# Altium schematic symbol library Amplifier_Audio.SchLib: 96 symbols (part 1 of 2)
Pins are listed as number, name and electrical type; pins without a type are passive.

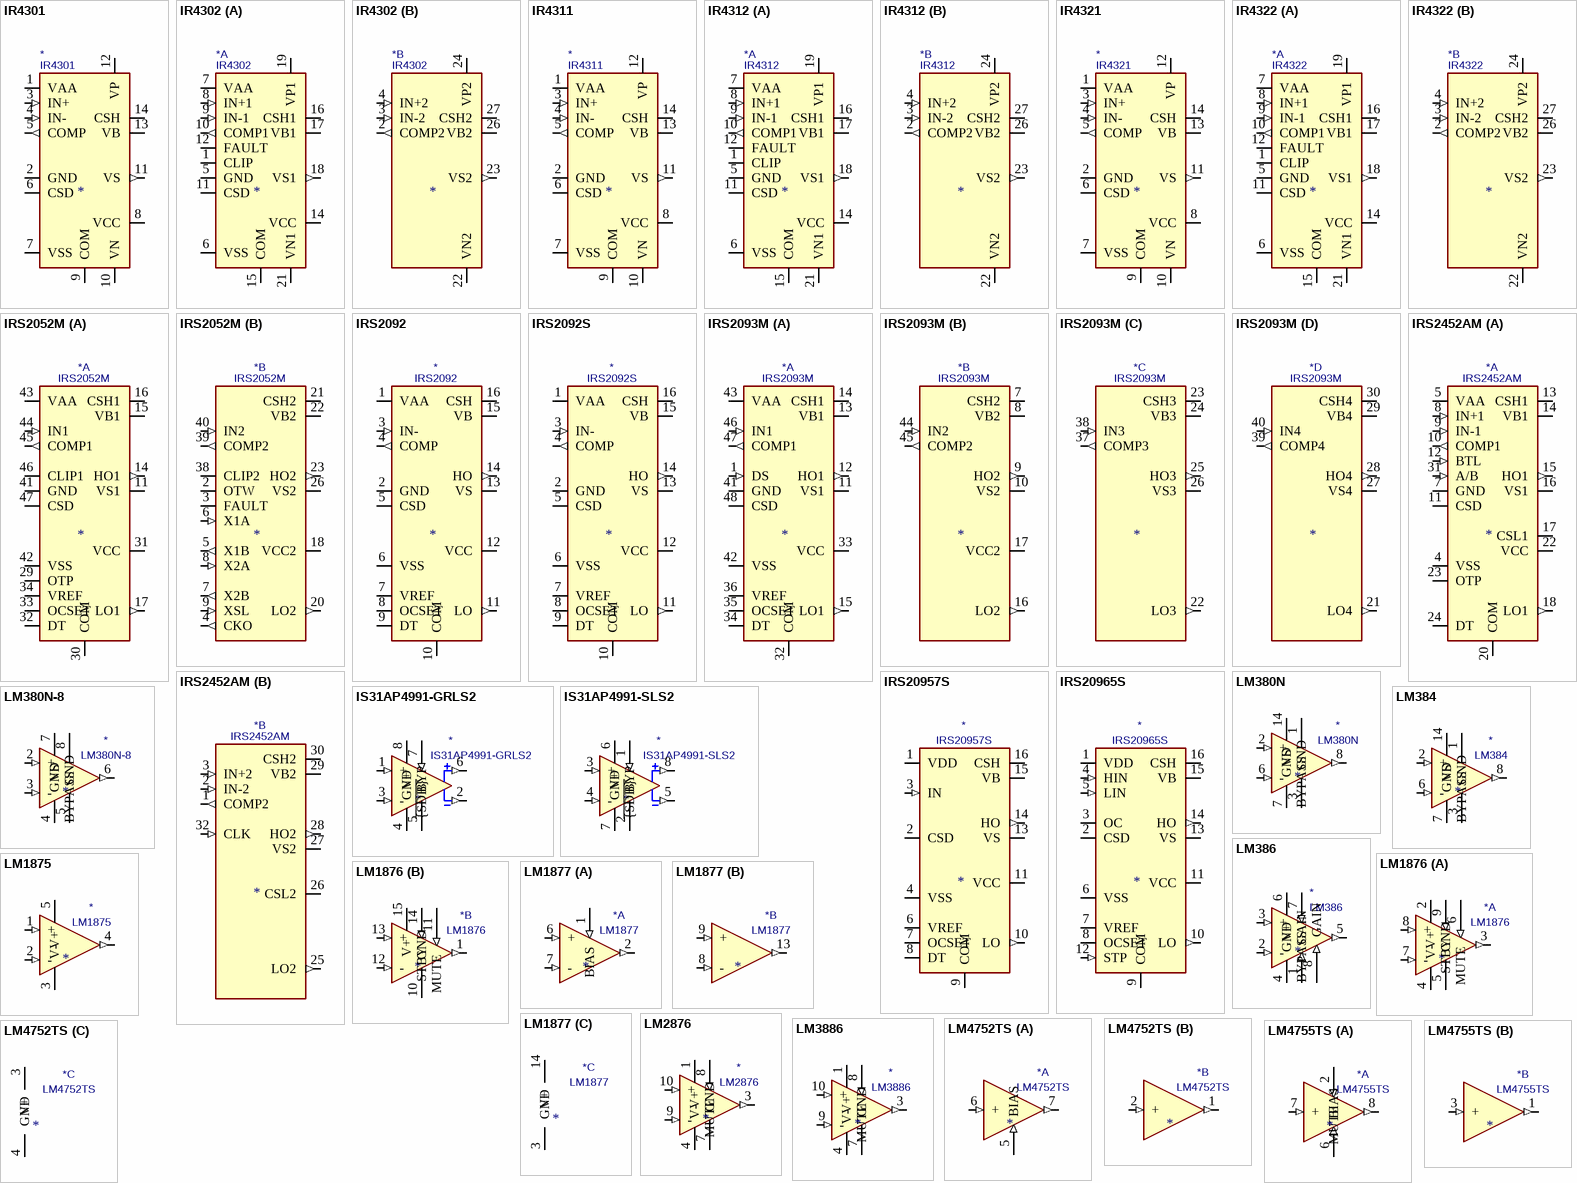
[diagram p0: symbols IR4301 to LM4755TS]

## IR4301
designator *  value IR4301
ki_keywords: integrated class d amplifier; ki_description: PowIRaudio Integrated Analog Input Class D Audio Amplifier, 160W/4ohm, 80V, PQFN-22; ki_fp_filters: Infineon*PQFN*4EP*6x5mm*P0.65mm*; Footprint: Package_DFN_QFN:Infineon_PQFN-22-15-4EP_6x5mm_P0.65mm; Supplier: https://www.infineon.com/dgdl/ir4301.pdf?fileId=5546d462533600a4015355d5fc691819
footprint Infineon_PQFN-22-15-4EP_6x5mm_P0.65mm
pins: 1 VAA (power), 2 GND (power), 3 IN+ (in), 4 IN- (in), 5 COMP (out), 6 CSD, 7 VSS (power), 8 VCC (power), 9 COM (power), 10 VN (power), 11 VS (out), 12 VP (power), 13 VB (power), 14 CSH, 15 COM hidden

## IR4302
designator *  value IR4302
ki_keywords: integrated class d amplifier 2ch; ki_description: PowIRaudio 2 Channel Integrated Analog Input Class D Audio Amplifier, 130W/4ohm, 80V, PQFN-44; ki_fp_filters: Infineon*PQFN*5EP*7x7mm*P0.5mm*; Footprint: Package_DFN_QFN:Infineon_PQFN-44-31-5EP_7x7mm_P0.5mm; Supplier: https://www.infineon.com/dgdl/ir4302.pdf?fileId=5546d462533600a4015355d602a9181d
footprint Infineon_PQFN-44-31-5EP_7x7mm_P0.5mm
part A pins: 1 CLIP (oc), 5 GND (power), 6 VSS (power), 7 VAA (power), 8 IN+1 (in), 9 IN-1 (in), 10 COMP1 (out), 11 CSD, 12 FAULT (oc), 13 NC (in) hidden, 14 VCC (power), 15 COM (power), 16 CSH1, 17 VB1 (power), 18 VS1 (out), 19 VP1 (power), 20 VS1 hidden, 21 VN1 (power), 28 COM hidden, 29 NC (in) hidden, 30 NC (in) hidden, 31 COM hidden
part B pins: 2 COMP2 (out), 3 IN-2 (in), 4 IN+2 (in), 22 VN2 (power), 23 VS2 (out), 24 VP2 (power), 25 VS2 hidden, 26 VB2 (power), 27 CSH2

## IR4311
designator *  value IR4311
ki_keywords: integrated class d amplifier; ki_description: PowIRaudio Integrated Analog Input Class D Audio Amplifier, 90W/4ohm, 60V, PQFN-22; ki_fp_filters: Infineon*PQFN*4EP*6x5mm*P0.65mm*; Footprint: Package_DFN_QFN:Infineon_PQFN-22-15-4EP_6x5mm_P0.65mm; Supplier: https://www.infineon.com/dgdl/ir4301.pdf?fileId=5546d462533600a4015355d5fc691819
footprint Infineon_PQFN-22-15-4EP_6x5mm_P0.65mm
pins: 1 VAA (power), 2 GND (power), 3 IN+ (in), 4 IN- (in), 5 COMP (out), 6 CSD, 7 VSS (power), 8 VCC (power), 9 COM (power), 10 VN (power), 11 VS (out), 12 VP (power), 13 VB (power), 14 CSH, 15 COM hidden

## IR4312
designator *  value IR4312
ki_keywords: integrated class d amplifier 2ch; ki_description: PowIRaudio 2 Channel Integrated Analog Input Class D Audio Amplifier, 100W/4ohm, 60V, PQFN-44; ki_fp_filters: Infineon*PQFN*5EP*7x7mm*P0.5mm*; Footprint: Package_DFN_QFN:Infineon_PQFN-44-31-5EP_7x7mm_P0.5mm; Supplier: https://www.infineon.com/dgdl/ir4302.pdf?fileId=5546d462533600a4015355d602a9181d
footprint Infineon_PQFN-44-31-5EP_7x7mm_P0.5mm
part A pins: 1 CLIP (oc), 5 GND (power), 6 VSS (power), 7 VAA (power), 8 IN+1 (in), 9 IN-1 (in), 10 COMP1 (out), 11 CSD, 12 FAULT (oc), 13 NC (in) hidden, 14 VCC (power), 15 COM (power), 16 CSH1, 17 VB1 (power), 18 VS1 (out), 19 VP1 (power), 20 VS1 hidden, 21 VN1 (power), 28 COM hidden, 29 NC (in) hidden, 30 NC (in) hidden, 31 COM hidden
part B pins: 2 COMP2 (out), 3 IN-2 (in), 4 IN+2 (in), 22 VN2 (power), 23 VS2 (out), 24 VP2 (power), 25 VS2 hidden, 26 VB2 (power), 27 CSH2

## IR4321
designator *  value IR4321
ki_keywords: integrated class d amplifier; ki_description: PowIRaudio Integrated Analog Input Class D Audio Amplifier, 35W/4ohm, 40V, PQFN-22; ki_fp_filters: Infineon*PQFN*4EP*6x5mm*P0.65mm*; Footprint: Package_DFN_QFN:Infineon_PQFN-22-15-4EP_6x5mm_P0.65mm; Supplier: https://www.infineon.com/dgdl/ir4301.pdf?fileId=5546d462533600a4015355d5fc691819
footprint Infineon_PQFN-22-15-4EP_6x5mm_P0.65mm
pins: 1 VAA (power), 2 GND (power), 3 IN+ (in), 4 IN- (in), 5 COMP (out), 6 CSD, 7 VSS (power), 8 VCC (power), 9 COM (power), 10 VN (power), 11 VS (out), 12 VP (power), 13 VB (power), 14 CSH, 15 COM hidden

## IR4322
designator *  value IR4322
ki_keywords: integrated class d amplifier 2ch; ki_description: PowIRaudio 2 Channel Integrated Analog Input Class D Audio Amplifier, 35W/4ohm, 40V, PQFN-44; ki_fp_filters: Infineon*PQFN*5EP*7x7mm*P0.5mm*; Footprint: Package_DFN_QFN:Infineon_PQFN-44-31-5EP_7x7mm_P0.5mm; Supplier: https://www.infineon.com/dgdl/ir4302.pdf?fileId=5546d462533600a4015355d602a9181d
footprint Infineon_PQFN-44-31-5EP_7x7mm_P0.5mm
part A pins: 1 CLIP (oc), 5 GND (power), 6 VSS (power), 7 VAA (power), 8 IN+1 (in), 9 IN-1 (in), 10 COMP1 (out), 11 CSD, 12 FAULT (oc), 13 NC (in) hidden, 14 VCC (power), 15 COM (power), 16 CSH1, 17 VB1 (power), 18 VS1 (out), 19 VP1 (power), 20 VS1 hidden, 21 VN1 (power), 28 COM hidden, 29 NC (in) hidden, 30 NC (in) hidden, 31 COM hidden
part B pins: 2 COMP2 (out), 3 IN-2 (in), 4 IN+2 (in), 22 VN2 (power), 23 VS2 (out), 24 VP2 (power), 25 VS2 hidden, 26 VB2 (power), 27 CSH2

## IRS2052M
designator *  value IRS2052M
ki_keywords: Gate Driver Class D 2ch; ki_description: 2 CH Digital Audio Amplifier, PWM Modulator, +/-100V, 0.5/0.6A, MLPQ-48; ki_fp_filters: Infineon*MLPQ*1EP*7x7mm*P0.5mm*; Footprint: Package_DFN_QFN:Infineon_MLPQ-48-1EP_7x7mm_P0.5mm_EP5.55x5.55mm; Supplier: https://www.infineon.com/dgdl/irs2052mpbf.pdf?fileId=5546d462533600a401535675d3b32788
footprint Infineon_MLPQ-48-1EP_7x7mm_P0.5mm_EP5.55x5.55mm
part A pins: 1 NC (in) hidden, 10 NC (in) hidden, 11 VS1, 12 NC (in) hidden, 13 NC (in) hidden, 14 HO1 (out), 15 VB1 (power), 16 CSH1, 17 LO1 (out), 19 COM hidden, 24 NC (in) hidden, 25 NC (in) hidden, 27 NC (in) hidden, 28 NC (in) hidden, 29 OTP, 30 COM (power), 31 VCC (power), 32 DT, 33 OCSET, 34 VREF (power), 35 NC (in) hidden, 36 NC (in) hidden, 37 NC (in) hidden, 41 GND (power), 42 VSS (power), 43 VAA (power), 44 IN1 (in), 45 COMP1 (out), 46 CLIP1 (oc), 47 CSD, 48 NC (in) hidden, 49 COM hidden
part B pins: 2 OTW (oc), 3 FAULT (oc), 4 CKO (out), 5 X1B (out), 6 X1A (in), 7 X2B (out), 8 X2A (in), 9 XSL (in), 18 VCC2 (power), 20 LO2 (out), 21 CSH2, 22 VB2 (power), 23 HO2 (out), 26 VS2, 38 CLIP2 (oc), 39 COMP2 (out), 40 IN2 (in)

## IRS2092
designator *  value IRS2092
ki_keywords: Gate Driver Class D; ki_description: Protected Digital Audio Amplifier, PWM Modulator, +/-100V, 1.0/1.2A, PDIP-16; ki_fp_filters: DIP*W7.62mm*; Footprint: Package_DIP:DIP-16_W7.62mm; Supplier: http://www.infineon.com/dgdl/irs2092.pdf?fileId=5546d462533600a401535675f1be2790
footprint DIP-16_W7.62mm
pins: 1 VAA (power), 2 GND (power), 3 IN- (in), 4 COMP (out), 5 CSD, 6 VSS (power), 7 VREF (power), 8 OCSET, 9 DT, 10 COM (power), 11 LO (out), 12 VCC (power), 13 VS, 14 HO (out), 15 VB (power), 16 CSH

## IRS2092S
designator *  value IRS2092S
ki_keywords: Gate Driver Class D; ki_description: Protected Digital Audio Amplifier, PWM Modulator, +/-100V, 1.0/1.2A, SOIC-16; ki_fp_filters: SOIC*3.9x9.9mm*P1.27mm*; Footprint: Package_SO:SOIC-16_3.9x9.9mm_P1.27mm; Supplier: http://www.infineon.com/dgdl/irs2092.pdf?fileId=5546d462533600a401535675f1be2790
footprint SOIC-16_3.9x9.9mm_P1.27mm
pins: 1 VAA (power), 2 GND (power), 3 IN- (in), 4 COMP (out), 5 CSD, 6 VSS (power), 7 VREF (power), 8 OCSET, 9 DT, 10 COM (power), 11 LO (out), 12 VCC (power), 13 VS, 14 HO (out), 15 VB (power), 16 CSH

## IRS2093M
designator *  value IRS2093M
ki_keywords: Gate Driver Class D 4ch; ki_description: 4 CH Digital Audio Amplifier, PWM Modulator, +/-100V, 0.5/0.6A, MLPQ-48; ki_fp_filters: Infineon*MLPQ*1EP*7x7mm*P0.5mm*; Footprint: Package_DFN_QFN:Infineon_MLPQ-48-1EP_7x7mm_P0.5mm_EP5.55x5.55mm; Supplier: https://www.infineon.com/dgdl/irs2093mpbf.pdf?fileId=5546d462533600a401535675fb892793
footprint Infineon_MLPQ-48-1EP_7x7mm_P0.5mm_EP5.55x5.55mm
part A pins: 1 DS (in), 2 NC (in) hidden, 3 NC (in) hidden, 4 NC (in) hidden, 5 NC (in) hidden, 6 NC (in) hidden, 11 VS1, 12 HO1 (out), 13 VB1 (power), 14 CSH1, 15 LO1 (out), 18 NC (in) hidden, 19 NC (in) hidden, 20 COM hidden, 31 NC (in) hidden, 32 COM (power), 33 VCC (power), 34 DT, 35 OCSET, 36 VREF (power), 41 GND (power), 42 VSS (power), 43 VAA (power), 46 IN1 (in), 47 COMP1 (out), 48 CSD, 49 COM hidden
part B pins: 7 CSH2, 8 VB2 (power), 9 HO2 (out), 10 VS2, 16 LO2 (out), 17 VCC2 (power), 44 IN2 (in), 45 COMP2 (out)
part C pins: 22 LO3 (out), 23 CSH3, 24 VB3 (power), 25 HO3 (out), 26 VS3, 37 COMP3 (out), 38 IN3 (in)
part D pins: 21 LO4 (out), 27 VS4, 28 HO4 (out), 29 VB4 (power), 30 CSH4, 39 COMP4 (out), 40 IN4 (in)

## IRS2452AM
designator *  value IRS2452AM
ki_keywords: Gate Driver Class D 2ch; ki_description: Class D Audio IC, PWM Modulator, +/-200V, 0.5/0.6A, MLPQ-32; ki_fp_filters: Infineon*MLPQ*1EP*7x7mm*P0.5mm*; Footprint: Package_DFN_QFN:Infineon_MLPQ-40-32-1EP_7x7mm_P0.5mm; Supplier: https://www.infineon.com/dgdl/Infineon-IRS2452AM-DS-v01_00-EN.pdf?fileId=5546d462584d1d4a01584ee4f1f00713
footprint Infineon_MLPQ-40-32-1EP_7x7mm_P0.5mm
part A pins: 4 VSS (power), 5 VAA (power), 6 NC (in) hidden, 7 GND (power), 8 IN+1 (in), 9 IN-1 (in), 10 COMP1 (out), 11 CSD, 12 BTL (in), 13 CSH1, 14 VB1 (power), 15 HO1 (out), 16 VS1, 17 CSL1, 18 LO1 (out), 19 NC (in) hidden, 20 COM (power), 21 NC (in) hidden, 22 VCC (power), 23 OTP, 24 DT, 31 A/B (in), 33 COM hidden
part B pins: 1 COMP2 (out), 2 IN-2 (in), 3 IN+2 (in), 25 LO2 (out), 26 CSL2, 27 VS2, 28 HO2 (out), 29 VB2 (power), 30 CSH2, 32 CLK (in)

## IRS20957S
designator *  value IRS20957S
ki_keywords: Gate Driver Class D; ki_description: Protected Digital Audio Driver, +/-100V, 1.0/1.2A, SOIC-16; ki_fp_filters: SOIC*3.9x9.9mm*P1.27mm*; Footprint: Package_SO:SOIC-16_3.9x9.9mm_P1.27mm; Supplier: http://www.infineon.com/dgdl/irs20957spbf.pdf?fileId=5546d462533600a401535676143e2799
footprint SOIC-16_3.9x9.9mm_P1.27mm
pins: 1 VDD (power), 2 CSD, 3 IN (in), 4 VSS (power), 5 NC (in) hidden, 6 VREF (power), 7 OCSET, 8 DT, 9 COM (power), 10 LO (out), 11 VCC (power), 12 NC (in) hidden, 13 VS, 14 HO (out), 15 VB (power), 16 CSH

## IRS20965S
designator *  value IRS20965S
ki_keywords: Gate Driver Class D; ki_description: Class D Audio Driver, +/-100V, 2.0/2.0A, SOIC-16; ki_fp_filters: SOIC*3.9x9.9mm*P1.27mm*; Footprint: Package_SO:SOIC-16_3.9x9.9mm_P1.27mm; Supplier: https://www.infineon.com/dgdl/irs20965spbf.pdf?fileId=5546d462533600a4015356761d8b279b
footprint SOIC-16_3.9x9.9mm_P1.27mm
pins: 1 VDD (power), 2 CSD, 3 OC (oc), 4 HIN (in), 5 LIN (in), 6 VSS (power), 7 VREF (power), 8 OCSET, 9 COM (power), 10 LO (out), 11 VCC (power), 12 STP (in), 13 VS, 14 HO (out), 15 VB (power), 16 CSH

## IS31AP4991-GRLS2
designator *  value IS31AP4991-GRLS2
ki_keywords: ultra low consumption distortion; ki_description: 1.2W, 2.7-5.5V, Audio Power Amplifier, Active-Low Standby, SOP-8; ki_fp_filters: SOP*3.9x4.9mm*P1.27mm*; Footprint: Package_SO:SOP-8_3.9x4.9mm_P1.27mm; Supplier: http://www.issi.com/WW/pdf/31AP4991.pdf
footprint SOP-8_3.9x4.9mm_P1.27mm
pins: 1 + (in), 2 (out), 3 - (in), 4 GND (power), 5 BYP, 6 (out), 7 ~{{SDB}} (in), 8 V+ (power)

## IS31AP4991-SLS2
designator *  value IS31AP4991-SLS2
ki_keywords: ultra low consumption distortion; ki_description: 1.2W, 2.7-5.5V, Audio Power Amplifier, Active-Low Standby, MSOP-8; ki_fp_filters: MSOP*3x3mm*P0.65mm*; Footprint: Package_SO:MSOP-8_3x3mm_P0.65mm; Supplier: http://www.issi.com/WW/pdf/31AP4991.pdf
footprint MSOP-8_3x3mm_P0.65mm
pins: 1 ~{{SDB}} (in), 2 BYP, 3 + (in), 4 - (in), 5 (out), 6 V+ (power), 7 GND (power), 8 (out)

## LM380N
designator *  value LM380N
ki_keywords: audio amplifier; ki_description: 2.5W Audio Power Amplifier, PDIP-14; ki_fp_filters: DIP*W7.62mm*; Footprint: Package_DIP:DIP-14_W7.62mm; Supplier: http://www.ti.com/lit/ds/symlink/lm380.pdf
footprint DIP-14_W7.62mm
pins: 1 BYPASS, 2 + (in), 3 GND (power), 4 GND hidden, 5 GND hidden, 6 - (in), 7 GND (power), 8 (out), 9 NC (in) hidden, 10 GND hidden, 11 GND hidden, 12 GND hidden, 13 NC (in) hidden, 14 VS (power)

## LM380N-8
designator *  value LM380N-8
ki_keywords: audio amplifier; ki_description: 2.5W Audio Power Amplifier, PDIP-8; ki_fp_filters: DIP*W7.62mm*; Footprint: Package_DIP:DIP-8_W7.62mm; Supplier: http://www.ti.com/lit/ds/symlink/lm380.pdf
footprint DIP-8_W7.62mm
pins: 1 NC (in) hidden, 2 + (in), 3 - (in), 4 GND (power), 5 GND (power), 6 (out), 7 VS (power), 8 BYPASS

## LM384
designator *  value LM384
ki_keywords: audio amplifier; ki_description: 5W Audio Power Amplifier, PDIP-14; ki_fp_filters: DIP*W7.62mm*; Footprint: Package_DIP:DIP-14_W7.62mm; Supplier: http://www.ti.com/lit/ds/symlink/lm384.pdf
footprint DIP-14_W7.62mm
pins: 1 BYPASS, 2 + (in), 3 GND (power), 4 GND hidden, 5 GND hidden, 6 - (in), 7 GND (power), 8 (out), 9 NC (in) hidden, 10 GND hidden, 11 GND hidden, 12 GND hidden, 13 NC (in) hidden, 14 VS (power)

## LM386
designator *  value LM386
ki_keywords: single Power opamp; ki_description: Low Voltage Audio Power Amplifier, DIP-8/SOIC-8/SSOP-8; ki_fp_filters: SOIC*3.9x4.9mm*P1.27mm* DIP*W7.62mm* MSSOP*P0.65mm* TSSOP*3x3mm*P0.5mm*; Supplier: http://www.ti.com/lit/ds/symlink/lm386.pdf
pins: 1 GAIN (in), 2 - (in), 3 + (in), 4 GND (power), 5 (out), 6 V+ (power), 7 BYPASS (in), 8 GAIN (in)

## LM1875
designator *  value LM1875
ki_keywords: audio amplifier; ki_description: 20W Audio Power Amplifier, TO-220-5; ki_fp_filters: TO?220*StaggerOdd*; Footprint: Package_TO_SOT_THT:TO-220-5_P3.4x3.7mm_StaggerOdd_Lead3.8mm_Vertical; Supplier: http://www.ti.com/lit/ds/symlink/lm1875.pdf
footprint TO-220-5_P3.4x3.7mm_StaggerOdd_Lead3.8mm_Vertical
pins: 1 + (in), 2 - (in), 3 V- (power), 4 (out), 5 V+ (power)

## LM1876
designator *  value LM1876
ki_keywords: audio amplifier 2ch; ki_description: Overture Audio Power Amplifier Series Dual 20W Audio Power Amplifier with Mute and Standby Modes, TO-220-15; ki_fp_filters: TO?220*StaggerOdd*; Footprint: Package_TO_SOT_THT:TO-220-15_P2.54x2.54mm_StaggerOdd_Lead4.58mm_Vertical; Supplier: http://www.ti.com/lit/ds/symlink/lm1876.pdf
footprint TO-220-15_P2.54x2.54mm_StaggerOdd_Lead4.58mm_Vertical
part A pins: 2 V+ (power), 3 (out), 4 V- (power), 5 GND (power), 6 MUTE (in), 7 - (in), 8 + (in), 9 STBY (in)
part B pins: 1 (out), 10 GND (power), 11 MUTE (in), 12 - (in), 13 + (in), 14 STBY (in), 15 V+ (power)

## LM1877
designator *  value LM1877
ki_keywords: audio amplifier 2ch; ki_description: Dual Audio Power Amplifier, PDIP-14/SOIC-14; ki_fp_filters: SOIC*7.5x9mm*P1.27mm* DIP*W7.62mm*; Supplier: http://www.ti.com/lit/ds/symlink/lm1877.pdf
part A pins: 1 BIAS (in), 2 (out), 6 + (in), 7 - (in)
part B pins: 8 - (in), 9 + (in), 13 (out)
part C pins: 3 GND (power), 4 GND hidden, 5 GND hidden, 10 GND hidden, 11 GND hidden, 12 GND hidden, 14 V+ (power)

## LM2876
designator *  value LM2876
ki_keywords: audio amplifier 2ch; ki_description: Overture Audio Power Amplifier Series High-Performance 40W Audio Power Amplifier w/Mute, TO-220-11; ki_fp_filters: TO?220*StaggerOdd*; Footprint: Package_TO_SOT_THT:TO-220-11_P3.4x5.08mm_StaggerOdd_Lead4.85mm_Vertical; Supplier: http://www.ti.com/lit/ds/symlink/lm2876.pdf
footprint TO-220-11_P3.4x5.08mm_StaggerOdd_Lead4.85mm_Vertical
pins: 1 V+ (power), 2 NC (in) hidden, 3 (out), 4 V- (power), 5 NC (in) hidden, 6 NC (in) hidden, 7 GND (power), 8 MUTE (in), 9 - (in), 10 + (in), 11 NC (in) hidden

## LM3886
designator *  value LM3886
ki_keywords: audio amplifier; ki_description: Overture Audio Power Amplifier Series High-Performance 68W Audio Power Amplifier w/Mute, TO-220-11; ki_fp_filters: TO?220*StaggerOdd*; Footprint: Package_TO_SOT_THT:TO-220-11_P3.4x5.08mm_StaggerOdd_Lead4.85mm_Vertical; Supplier: http://www.ti.com/lit/ds/symlink/lm3886.pdf
footprint TO-220-11_P3.4x5.08mm_StaggerOdd_Lead4.85mm_Vertical
pins: 1 V+ (power), 2 NC (in) hidden, 3 (out), 4 V- (power), 5 V+ hidden, 6 NC (in) hidden, 7 GND (power), 8 MUTE (in), 9 - (in), 10 + (in), 11 NC (in) hidden

## LM4752TS
designator *  value LM4752TS
ki_keywords: audio amplifier 2ch; ki_description: Stereo 11W Audio Power Amplifier, TO-263-7; ki_fp_filters: TO?263*TabPin4*; Footprint: Package_TO_SOT_SMD:TO-263-7_TabPin4; Supplier: http://www.ti.com/lit/ds/symlink/lm4752.pdf
footprint TO-263-7_TabPin4
part A pins: 5 BIAS (in), 6 + (in), 7 (out)
part B pins: 1 (out), 2 + (in)
part C pins: 3 V+ (power), 4 GND (power)

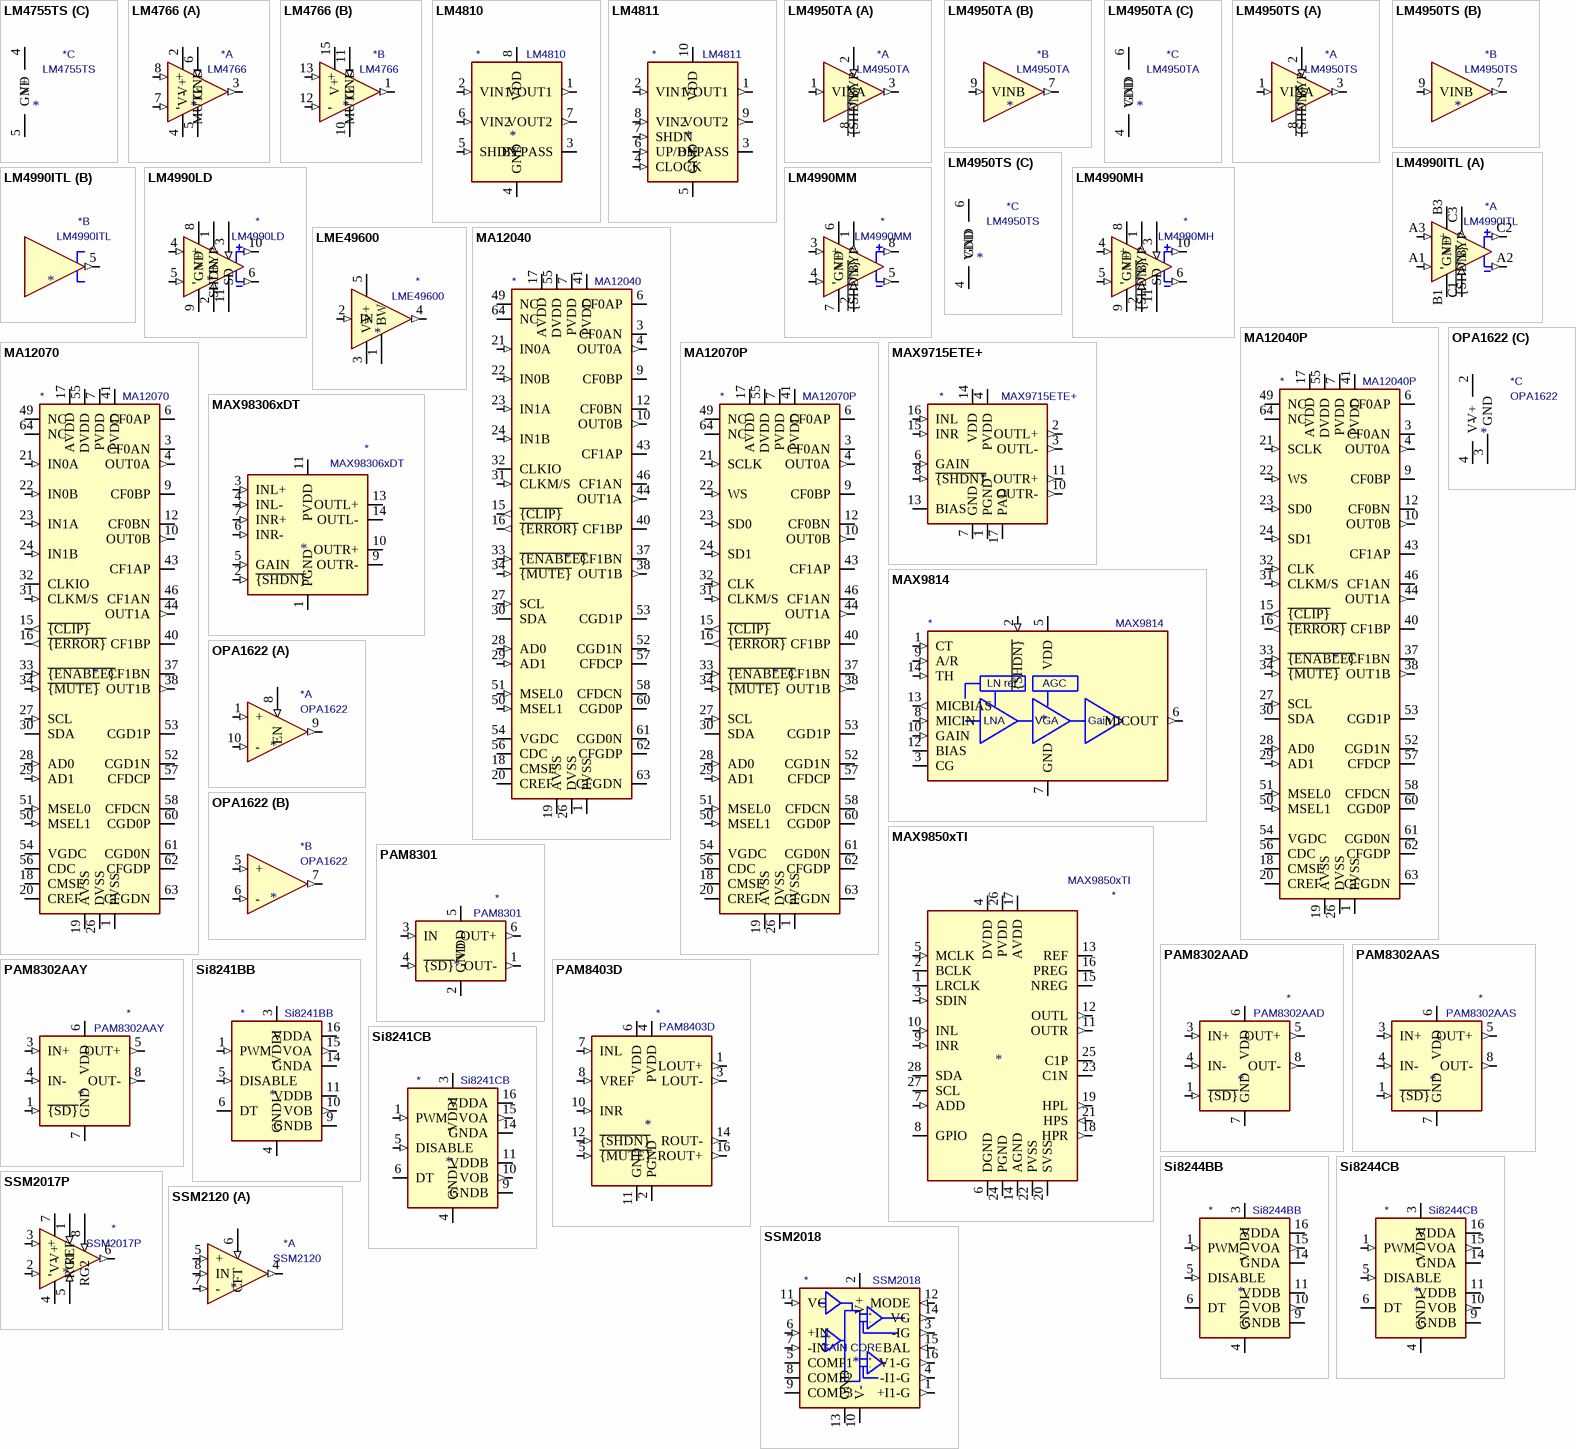
[diagram p1: symbols LM4755TS to SSM2120]

## LM4755TS
designator *  value LM4755TS
ki_keywords: audio amplifier 2ch; ki_description: Stereo 11W Audio Power Amplifier with Mute, TO-263-9; ki_fp_filters: TO?263*TabPin5*; Footprint: Package_TO_SOT_SMD:TO-263-9_TabPin5; Supplier: http://www.ti.com/lit/ds/symlink/lm4755.pdf
footprint TO-263-9_TabPin5
part A pins: 2 MUTE (in), 6 BIAS (in), 7 + (in), 8 (out), 9 NC (in) hidden
part B pins: 1 (out), 3 + (in)
part C pins: 4 V+ (power), 5 GND (power)

## LM4766
designator *  value LM4766
ki_keywords: audio amplifier 2ch; ki_description: Overture Audio Power Amplifier Series Dual 40W Audio Power Amplifier with Mute, TO-220-15; ki_fp_filters: TO?220*StaggerOdd*; Footprint: Package_TO_SOT_THT:TO-220-15_P2.54x2.54mm_StaggerOdd_Lead4.58mm_Vertical; Supplier: http://www.ti.com/lit/ds/symlink/lm4766.pdf
footprint TO-220-15_P2.54x2.54mm_StaggerOdd_Lead4.58mm_Vertical
part A pins: 2 V+ (power), 3 (out), 4 V- (power), 5 GND (power), 6 MUTE (in), 7 - (in), 8 + (in), 9 NC (in) hidden
part B pins: 1 (out), 10 GND (power), 11 MUTE (in), 12 - (in), 13 + (in), 14 NC (in) hidden, 15 V+ (power)

## LM4810
designator *  value LM4810
ki_keywords: audio amplifier headphone; ki_description: Boomer Dual 105mW Headphone Amplifier with Active-High Shutdown Mode, VSSOP-8; ki_fp_filters: TSSOP*3x3mm*P0.65mm*; Footprint: Package_SO:TSSOP-8_3x3mm_P0.65mm; Supplier: http://www.ti.com/lit/ds/symlink/lm4810.pdf
footprint TSSOP-8_3x3mm_P0.65mm
pins: 1 VOUT1 (out), 2 VIN1 (in), 3 BYPASS, 4 GND (power), 5 SHDN (in), 6 VIN2 (in), 7 VOUT2 (out), 8 VDD (power)

## LM4811
designator *  value LM4811
ki_keywords: audio amplifier headphone 2ch; ki_description: Boomer Dual 105mW Headphone Amplifier with Digital Volume Control and Shutdown Mode, VSSOP-10; ki_fp_filters: TSSOP*3x3mm*P0.5mm*; Footprint: Package_SO:TSSOP-10_3x3mm_P0.5mm; Supplier: http://www.ti.com/lit/ds/symlink/lm4811.pdf
footprint TSSOP-10_3x3mm_P0.5mm
pins: 1 VOUT1 (out), 2 VIN1 (in), 3 BYPASS, 4 CLOCK (in), 5 GND (power), 6 UP/DN (in), 7 SHDN (in), 8 VIN2 (in), 9 VOUT2 (out), 10 VDD (power)

## LM4950TA
designator *  value LM4950TA
ki_keywords: audio amplifier; ki_description: Boomer Audio Power Amplifier Series 7.5W Mono-BTL or 3.1W Stereo Audio Power Amplifier, TO-220-9; ki_fp_filters: TO?220*StaggerOdd*; Footprint: Package_TO_SOT_THT:TO-220-5_P3.4x3.7mm_StaggerOdd_Lead3.8mm_Vertical; Supplier: http://www.ti.com/lit/ds/symlink/lm4950.pdf
footprint TO-220-5_P3.4x3.7mm_StaggerOdd_Lead3.8mm_Vertical
part A pins: 1 VINA (in), 2 ~{{SHDN}} (in), 3 (out), 8 BYP
part B pins: 7 (out), 9 VINB (in)
part C pins: 4 GND (power), 5 GND hidden, 6 VDD (power)

## LM4950TS
designator *  value LM4950TS
ki_keywords: audio amplifier; ki_description: Boomer Audio Power Amplifier Series 7.5W Mono-BTL or 3.1W Stereo Audio Power Amplifier, TO-263-9; ki_fp_filters: TO?263*TabPin5*; Footprint: Package_TO_SOT_SMD:TO-263-9_TabPin5; Supplier: http://www.ti.com/lit/ds/symlink/lm4950.pdf
footprint TO-263-9_TabPin5
part A pins: 1 VINA (in), 2 ~{{SHDN}} (in), 3 (out), 8 BYP
part B pins: 7 (out), 9 VINB (in)
part C pins: 4 GND (power), 5 GND hidden, 6 VDD (power)

## LM4990ITL
designator *  value LM4990ITL
ki_keywords: audio amplifier class d; ki_description: Boomer 2 Watt Audio Power Amplifier with Selectable Shutdown Logic Level, DSBGA-9; ki_fp_filters: *DSBGA*1.4715x1.4715mm*P0.5mm*; Footprint: Package_BGA:Texas_DSBGA-9_1.4715x1.4715mm_Layout3x3_P0.5mm; Supplier: http://www.ti.com/lit/ds/symlink/lm4990.pdf
footprint Texas_DSBGA-9_1.4715x1.4715mm_Layout3x3_P0.5mm
part A pins: A1 - (in), A2 (out), A3 + (in), B1 GND (power), B2 GND hidden, B3 V+ (power), C1 BYP (in), C2 (out), C3 ~{{SHDN}} (out)
part B pins: 5 (out)

## LM4990LD
designator *  value LM4990LD
ki_keywords: audio amplifier class d; ki_description: Boomer 2 Watt Audio Power Amplifier with Selectable Shutdown Logic Level, WSON-10; ki_fp_filters: WSON*EP*4x3mm*P0.5mm*; Footprint: Package_SON:WSON-10-1EP_4x3mm_P0.5mm_EP2.2x2mm; Supplier: http://www.ti.com/lit/ds/symlink/lm4990.pdf
footprint WSON-10-1EP_4x3mm_P0.5mm_EP2.2x2mm
pins: 1 SHDN (out), 2 BYP (in), 3 SD (in), 4 + (in), 5 - (in), 6 (out), 7 NC (in) hidden, 8 V+ (power), 9 GND (power), 10 (out), 11 (power)

## LM4990MH
designator *  value LM4990MH
ki_keywords: audio amplifier class d; ki_description: Boomer 2 Watt Audio Power Amplifier with Selectable Shutdown Logic Level, MSOP-10; ki_fp_filters: MSOP*EP*3x3mm*P0.5mm*; Footprint: Package_SO:MSOP-10-1EP_3x3mm_P0.5mm_EP1.68x1.88mm; Supplier: http://www.ti.com/lit/ds/symlink/lm4990.pdf
footprint MSOP-10-1EP_3x3mm_P0.5mm_EP1.68x1.88mm
pins: 1 ~{{SHDN}} (out), 2 BYP (in), 3 SD (in), 4 + (in), 5 - (in), 6 (out), 7 NC (in) hidden, 8 V+ (power), 9 GND (power), 10 (out), 11 (power)

## LM4990MM
designator *  value LM4990MM
ki_keywords: audio amplifier class d; ki_description: Boomer 2 Watt Audio Power Amplifier with Selectable Shutdown Logic Level, VSSOP-8; ki_fp_filters: TSSOP*3x3mm*P0.65mm*; Footprint: Package_SO:TSSOP-8_3x3mm_P0.65mm; Supplier: http://www.ti.com/lit/ds/symlink/lm4990.pdf
footprint TSSOP-8_3x3mm_P0.65mm
pins: 1 ~{{SHDN}} (out), 2 BYP (in), 3 + (in), 4 - (in), 5 (out), 6 V+ (power), 7 GND (power), 8 (out)

## LME49600
designator *  value LME49600
ki_keywords: audio buffer amplifier; ki_description: High-Performance, High-Fidelity, High-Current Headphone Buffer, 250mA, TO-263; ki_fp_filters: TO?263*; Footprint: Package_TO_SOT_SMD:TO-263-5_TabPin3; Supplier: http://www.ti.com/lit/ds/symlink/lme49600.pdf
footprint TO-263-5_TabPin3
pins: 1 BW, 2 IN (in), 3 V- (power), 4 (out), 5 V+ (power)

## MA12040
designator *  value MA12040
ki_keywords: integrated class d amplifier; ki_description: Filterless and High-Efficiency +4V to +18V Audio Amplifier with Analog Input, QFN-64; ki_fp_filters: QFN*1EP*9x9mm*P0.5mm*; Footprint: Package_DFN_QFN:QFN-64-1EP_9x9mm_P0.5mm_EP5.45x5.45mm; Supplier: https://www.infineon.com/dgdl/Infineon-MA12040-DS-v01_00-EN.pdf?fileId=5546d46264a8de7e0164b7467a3d617c
footprint QFN-64-1EP_9x9mm_P0.5mm_EP5.45x5.45mm
pins: 1 PVSS (power), 2 PVSS hidden, 3 CF0AN, 4 OUT0A (out), 5 OUT0A hidden, 6 CF0AP, 7 PVDD (power), 8 PVDD hidden, 9 CF0BP, 10 OUT0B (out), 11 OUT0B hidden, 12 CF0BN, 13 PVSS hidden, 14 PVSS hidden, 15 ~{{CLIP}} (out), 16 ~{{ERROR}} (out), 17 AVDD (power), 18 CMSE, 19 AVSS (power), 20 CREF, 21 IN0A (in), 22 IN0B (in), 23 IN1A (in), 24 IN1B (in), 25 AVSS hidden, 26 DVSS (power), 27 SCL (in), 28 AD0 (in), 29 AD1 (in), 30 SDA (io), 31 CLKM/S (in), 32 CLKIO (io), 33 ~{{ENABLE}} (in), 34 ~{{MUTE}} (in), 35 PVSS hidden, 36 PVSS hidden, 37 CF1BN, 38 OUT1B (out), 39 OUT1B hidden, 40 CF1BP, 41 PVDD (power), 42 PVDD hidden, 43 CF1AP, 44 OUT1A (out), 45 OUT1A hidden, 46 CF1AN, 47 PVSS hidden, 48 PVSS hidden, 49 NC, 50 MSEL1 (in), 51 MSEL0 (in), 52 CGD1N, 53 CGD1P, 54 VGDC, 55 DVDD (power), 56 CDC, 57 CFDCP, 58 CFDCN, 59 DVSS hidden, 60 CGD0P, 61 CGD0N, 62 CFGDP, 63 CFGDN, 64 NC

## MA12040P
designator *  value MA12040P
ki_keywords: integrated class d amplifier; ki_description: Filterless and High-Efficiency +4V to +18V Audio Amplifier with I2S Digital Input, QFN-64; ki_fp_filters: QFN*1EP*9x9mm*P0.5mm*; Footprint: Package_DFN_QFN:QFN-64-1EP_9x9mm_P0.5mm_EP5.45x5.45mm; Supplier: https://www.infineon.com/dgdl/Infineon-MA12040P-DS-v01_00-EN.pdf?fileId=5546d46264a8de7e0164b74ff0e561a2
footprint QFN-64-1EP_9x9mm_P0.5mm_EP5.45x5.45mm
pins: 1 PVSS (power), 2 PVSS hidden, 3 CF0AN, 4 OUT0A (out), 5 OUT0A hidden, 6 CF0AP, 7 PVDD (power), 8 PVDD hidden, 9 CF0BP, 10 OUT0B (out), 11 OUT0B hidden, 12 CF0BN, 13 PVSS hidden, 14 PVSS hidden, 15 ~{{CLIP}} (out), 16 ~{{ERROR}} (out), 17 AVDD (power), 18 CMSE, 19 AVSS (power), 20 CREF, 21 SCLK (in), 22 WS (in), 23 SD0 (in), 24 SD1 (in), 25 AVSS hidden, 26 DVSS (power), 27 SCL (in), 28 AD0 (in), 29 AD1 (in), 30 SDA (io), 31 CLKM/S (in), 32 CLK (in), 33 ~{{ENABLE}} (in), 34 ~{{MUTE}} (in), 35 PVSS hidden, 36 PVSS hidden, 37 CF1BN, 38 OUT1B (out), 39 OUT1B hidden, 40 CF1BP, 41 PVDD (power), 42 PVDD hidden, 43 CF1AP, 44 OUT1A (out), 45 OUT1A hidden, 46 CF1AN, 47 PVSS hidden, 48 PVSS hidden, 49 NC, 50 MSEL1 (in), 51 MSEL0 (in), 52 CGD1N, 53 CGD1P, 54 VGDC, 55 DVDD (power), 56 CDC, 57 CFDCP, 58 CFDCN, 59 DVSS hidden, 60 CGD0P, 61 CGD0N, 62 CFGDP, 63 CFGDN, 64 NC

## MA12070
designator *  value MA12070
ki_keywords: integrated class d amplifier; ki_description: Filterless and High-Efficiency +4V to +26V Audio Amplifier with Analog Input, QFN-64; ki_fp_filters: QFN*1EP*9x9mm*P0.5mm*; Footprint: Package_DFN_QFN:QFN-64-1EP_9x9mm_P0.5mm_EP5.45x5.45mm; Supplier: https://www.infineon.com/dgdl/Infineon-MA12070-DS-v01_00-EN.pdf?fileId=5546d46264a8de7e0164b750002861a5
footprint QFN-64-1EP_9x9mm_P0.5mm_EP5.45x5.45mm
pins: 1 PVSS (power), 2 PVSS hidden, 3 CF0AN, 4 OUT0A (out), 5 OUT0A hidden, 6 CF0AP, 7 PVDD (power), 8 PVDD hidden, 9 CF0BP, 10 OUT0B (out), 11 OUT0B hidden, 12 CF0BN, 13 PVSS hidden, 14 PVSS hidden, 15 ~{{CLIP}} (out), 16 ~{{ERROR}} (out), 17 AVDD (power), 18 CMSE, 19 AVSS (power), 20 CREF, 21 IN0A (in), 22 IN0B (in), 23 IN1A (in), 24 IN1B (in), 25 AVSS hidden, 26 DVSS (power), 27 SCL (in), 28 AD0 (in), 29 AD1 (in), 30 SDA (io), 31 CLKM/S (in), 32 CLKIO (io), 33 ~{{ENABLE}} (in), 34 ~{{MUTE}} (in), 35 PVSS hidden, 36 PVSS hidden, 37 CF1BN, 38 OUT1B (out), 39 OUT1B hidden, 40 CF1BP, 41 PVDD (power), 42 PVDD hidden, 43 CF1AP, 44 OUT1A (out), 45 OUT1A hidden, 46 CF1AN, 47 PVSS hidden, 48 PVSS hidden, 49 NC, 50 MSEL1 (in), 51 MSEL0 (in), 52 CGD1N, 53 CGD1P, 54 VGDC, 55 DVDD (power), 56 CDC, 57 CFDCP, 58 CFDCN, 59 DVSS hidden, 60 CGD0P, 61 CGD0N, 62 CFGDP, 63 CFGDN, 64 NC

## MA12070P
designator *  value MA12070P
ki_keywords: integrated class d amplifier; ki_description: Filterless and High-Efficiency +4V to +26V Audio Amplifier with I2S Digital Input, QFN-64; ki_fp_filters: QFN*1EP*9x9mm*P0.5mm*; Footprint: Package_DFN_QFN:QFN-64-1EP_9x9mm_P0.5mm_EP5.45x5.45mm; Supplier: https://www.infineon.com/dgdl/Infineon-MA12070P-DS-v01_00-EN.pdf?fileId=5546d46264a8de7e0164b761f2f261e4
footprint QFN-64-1EP_9x9mm_P0.5mm_EP5.45x5.45mm
pins: 1 PVSS (power), 2 PVSS hidden, 3 CF0AN, 4 OUT0A (out), 5 OUT0A hidden, 6 CF0AP, 7 PVDD (power), 8 PVDD hidden, 9 CF0BP, 10 OUT0B (out), 11 OUT0B hidden, 12 CF0BN, 13 PVSS hidden, 14 PVSS hidden, 15 ~{{CLIP}} (out), 16 ~{{ERROR}} (out), 17 AVDD (power), 18 CMSE, 19 AVSS (power), 20 CREF, 21 SCLK (in), 22 WS (in), 23 SD0 (in), 24 SD1 (in), 25 AVSS hidden, 26 DVSS (power), 27 SCL (in), 28 AD0 (in), 29 AD1 (in), 30 SDA (io), 31 CLKM/S (in), 32 CLK (in), 33 ~{{ENABLE}} (in), 34 ~{{MUTE}} (in), 35 PVSS hidden, 36 PVSS hidden, 37 CF1BN, 38 OUT1B (out), 39 OUT1B hidden, 40 CF1BP, 41 PVDD (power), 42 PVDD hidden, 43 CF1AP, 44 OUT1A (out), 45 OUT1A hidden, 46 CF1AN, 47 PVSS hidden, 48 PVSS hidden, 49 NC, 50 MSEL1 (in), 51 MSEL0 (in), 52 CGD1N, 53 CGD1P, 54 VGDC, 55 DVDD (power), 56 CDC, 57 CFDCP, 58 CFDCN, 59 DVSS hidden, 60 CGD0P, 61 CGD0N, 62 CFGDP, 63 CFGDN, 64 NC

## MAX9715ETE+
designator *  value MAX9715ETE+
ki_keywords: Class-D Stereo; ki_description: 2.8W, Low-EMI, Stereo, Filterless Class D Audio Amplifier, TQFN-16; ki_fp_filters: TQFN*1EP*5x5mm*P0.8mm*; Footprint: Package_DFN_QFN:TQFN-16-1EP_5x5mm_P0.8mm_EP3.1x3.1mm; Supplier: https://datasheets.maximintegrated.com/en/ds/MAX9715.pdf
footprint TQFN-16-1EP_5x5mm_P0.8mm_EP3.1x3.1mm
pins: 1 PGND (power), 2 OUTL+ (out), 3 OUTL- (out), 4 PVDD (power), 5 NC (in) hidden, 6 GAIN (in), 7 GND (power), 8 ~{{SHDN}} (in), 9 PVDD hidden, 10 OUTR- (out), 11 OUTR+ (out), 12 PGND hidden, 13 BIAS, 14 VDD (power), 15 INR (in), 16 INL (in), 17 PAD

## MAX9814
designator *  value MAX9814
ki_keywords: audio microphone amplifier; ki_description: Microphone Amplifier with AGC and Low-Noise Microphone Bias, TDFN-14; ki_fp_filters: *DFN*EP*3x3mm*P0.4mm*; Footprint: Package_DFN_QFN:DFN-14-1EP_3x3mm_P0.4mm_EP1.78x2.35mm; Supplier: https://datasheets.maximintegrated.com/en/ds/MAX9814.pdf
footprint DFN-14-1EP_3x3mm_P0.4mm_EP1.78x2.35mm
pins: 1 CT (in), 2 ~{{SHDN}} (in), 3 CG, 4 GND hidden, 5 VDD (power), 6 MICOUT (out), 7 GND (power), 8 MICIN (in), 9 A/R (in), 10 GAIN (in), 11 GND hidden, 12 BIAS, 13 MICBIAS (out), 14 TH (in), 15 GND hidden
text: LN ref; AGC; LNA; VGA; Gain

## MAX9850xTI
designator *  value MAX9850xTI
ki_keywords: audio ampflifier stereo i2s; ki_description: Stereo audio DAC with headphone amplifier, TQFN-28; ki_fp_filters: TQFN*1EP*5x5mm*P0.5mm*; Footprint: Package_DFN_QFN:TQFN-28-1EP_5x5mm_P0.5mm_EP3.25x3.25mm_ThermalVias; Supplier: https://datasheets.maximintegrated.com/en/ds/MAX9850.pdf
footprint TQFN-28-1EP_5x5mm_P0.5mm_EP3.25x3.25mm_ThermalVias
pins: 1 LRCLK (io), 2 BCLK (io), 3 SDIN (in), 4 DVDD (power), 5 MCLK (in), 6 DGND (power), 7 ADD (in), 8 GPIO (io), 9 INR (in), 10 INL (in), 11 OUTR (out), 12 OUTL (out), 13 REF (power), 14 AGND (power), 15 NREG (power), 16 PREG (power), 17 AVDD (power), 18 HPR (out), 19 HPL (out), 20 SVSS (power), 21 HPS (in), 22 PVSS (power), 23 C1N, 24 PGND (power), 25 C1P, 26 PVDD (power), 27 SCL (io), 28 SDA (io), 29 AGND hidden

## MAX98306xDT
designator *  value MAX98306xDT
ki_keywords: Class-D stereo amplifier; ki_description: Stereo 3.7 W Class D Amplifier, TDFN-14; ki_fp_filters: TDFN*1EP*3x3mm*P0.4mm*; Footprint: Package_DFN_QFN:TDFN-14-1EP_3x3mm_P0.4mm_EP1.78x2.35mm; Supplier: https://datasheets.maximintegrated.com/en/ds/MAX98306.pdf
footprint TDFN-14-1EP_3x3mm_P0.4mm_EP1.78x2.35mm
pins: 1 PGND (power), 2 ~{{SHDN}} (in), 3 INL+ (in), 4 INL- (in), 5 GAIN (in), 6 INR- (in), 7 INR+ (in), 8 PGND (power) hidden, 9 OUTR- (power), 10 OUTR+ (power), 11 PVDD (power), 12 PVDD (power) hidden, 13 OUTL+ (power), 14 OUTL- (power), 15 PGND (power) hidden

## OPA1622
designator *  value OPA1622
ki_keywords: dual opamp audio; ki_description: High-Fidelity, Bipolar-Input, Audio Operational Amplifier, VSON-10; ki_fp_filters: Texas*PVSON*; Footprint: Package_SON:Texas_S-PVSON-N10; Supplier: http://www.ti.com/lit/ds/symlink/opa1622.pdf
footprint Texas_S-PVSON-N10
part A pins: 1 + (in), 8 EN (in), 9 (out), 10 - (in)
part B pins: 5 + (in), 6 - (in), 7 (out)
part C pins: 2 V+ (power), 3 GND (power), 4 V- (power), 11 V- hidden

## PAM8301
designator *  value PAM8301
ki_keywords: audio amplifier class d; ki_description: Filterless Class-D Mono Audio Amplifier, 1.5W, TSOT-26; ki_fp_filters: SOT?23*; Footprint: Package_TO_SOT_SMD:SOT-23-6; Supplier: https://www.diodes.com/assets/Datasheets/PAM8301.pdf
footprint SOT-23-6
pins: 1 OUT- (out), 2 GND (power), 3 IN (in), 4 ~{{SD}} (in), 5 VDD (power), 6 OUT+ (out)

## PAM8302AAD
designator *  value PAM8302AAD
ki_keywords: audio amplifier class d; ki_description: 2.5W Filterless Class-D Mono Audio Amplifier, SOIC-8; ki_fp_filters: MSOP*3x3mm*P0.65mm* SOIC*3.9x4.9mm*P1.27mm*; Supplier: https://www.diodes.com/assets/Datasheets/PAM8302A.pdf
pins: 1 ~{{SD}} (in), 2 NC (in) hidden, 3 IN+ (in), 4 IN- (in), 5 OUT+ (out), 6 VDD (power), 7 GND (power), 8 OUT- (out)

## PAM8302AAS
designator *  value PAM8302AAS
ki_keywords: audio amplifier class d; ki_description: 2.5W Filterless Class-D Mono Audio Amplifier, MSOP-8; ki_fp_filters: MSOP*3x3mm*P0.65mm* SOIC*3.9x4.9mm*P1.27mm*; Supplier: https://www.diodes.com/assets/Datasheets/PAM8302A.pdf
pins: 1 ~{{SD}} (in), 2 NC (in) hidden, 3 IN+ (in), 4 IN- (in), 5 OUT+ (out), 6 VDD (power), 7 GND (power), 8 OUT- (out)

## PAM8302AAY
designator *  value PAM8302AAY
ki_keywords: audio amplifier class d; ki_description: 2.5W Filterless Class-D Mono Audio Amplifier, DFN-8; ki_fp_filters: DFN*EP*3x3mm*P0.65mm*; Footprint: Package_DFN_QFN:DFN-8-1EP_3x3mm_P0.65mm_EP1.55x2.4mm; Supplier: https://www.diodes.com/assets/Datasheets/PAM8302A.pdf
footprint DFN-8-1EP_3x3mm_P0.65mm_EP1.55x2.4mm
pins: 1 ~{{SD}} (in), 2 NC (in) hidden, 3 IN+ (in), 4 IN- (in), 5 OUT+ (out), 6 VDD (power), 7 GND (power), 8 OUT- (out)

## PAM8403D
designator *  value PAM8403D
ki_keywords: audio amplifier class d; ki_description: 3W Filterless Class-D Stereo Audio Amplifier, SOP-16; ki_fp_filters: SOP*3.9x9.9mm*P1.27mm*; Footprint: Package_SO:SOP-16_3.9x9.9mm_P1.27mm; Supplier: https://www.diodes.com/assets/Datasheets/PAM8403.pdf
footprint SOP-16_3.9x9.9mm_P1.27mm
pins: 1 LOUT+ (out), 2 PGND (power), 3 LOUT- (out), 4 PVDD (power), 5 ~{{MUTE}} (in), 6 VDD (power), 7 INL (in), 8 VREF (in), 9 NC (in) hidden, 10 INR (in), 11 GND (power), 12 ~{{SHDN}} (in), 13 PVDD hidden, 14 ROUT- (out), 15 PGND hidden, 16 ROUT+ (out)

## Si8241BB
designator *  value Si8241BB
ki_keywords: class d gate driver; ki_description: Class D Audio Driver With Precision Dead-Time Generator, 8V UVLO, +/-750V, +0.5/-0.5A, SOIC-16; ki_fp_filters: SOIC*3.9x9.9*P1.27mm*; Footprint: Package_SO:SOIC-16_3.9x9.9mm_P1.27mm; Supplier: https://www.silabs.com/documents/public/data-sheets/Si824x.pdf
footprint SOIC-16_3.9x9.9mm_P1.27mm
pins: 1 PWM (in), 2 NC (in) hidden, 3 VDDI (power), 4 GNDI (power), 5 DISABLE (in), 6 DT, 7 NC (in) hidden, 8 VDDI hidden, 9 GNDB (power), 10 VOB (out), 11 VDDB (power), 12 NC (in) hidden, 13 NC (in) hidden, 14 GNDA (power), 15 VOA (out), 16 VDDA (power)

## Si8241CB
designator *  value Si8241CB
ki_keywords: class d gate driver; ki_description: Class D Audio Driver With Precision Dead-Time Generator, 10V UVLO, +/-750V, +0.5/-0.5A, SOIC-16; ki_fp_filters: SOIC*3.9x9.9*P1.27mm*; Footprint: Package_SO:SOIC-16_3.9x9.9mm_P1.27mm; Supplier: https://www.onsemi.com/pub/Collateral/NCD5702-D.PDF
footprint SOIC-16_3.9x9.9mm_P1.27mm
pins: 1 PWM (in), 2 NC (in) hidden, 3 VDDI (power), 4 GNDI (power), 5 DISABLE (in), 6 DT, 7 NC (in) hidden, 8 VDDI hidden, 9 GNDB (power), 10 VOB (out), 11 VDDB (power), 12 NC (in) hidden, 13 NC (in) hidden, 14 GNDA (power), 15 VOA (out), 16 VDDA (power)

## Si8244BB
designator *  value Si8244BB
ki_keywords: class d gate driver; ki_description: Class D Audio Driver With Precision Dead-Time Generator, 8V UVLO, +/-750V, +4/-4A, SOIC-16; ki_fp_filters: SOIC*3.9x9.9*P1.27mm*; Footprint: Package_SO:SOIC-16_3.9x9.9mm_P1.27mm; Supplier: https://www.onsemi.com/pub/Collateral/NCD5702-D.PDF
footprint SOIC-16_3.9x9.9mm_P1.27mm
pins: 1 PWM (in), 2 NC (in) hidden, 3 VDDI (power), 4 GNDI (power), 5 DISABLE (in), 6 DT, 7 NC (in) hidden, 8 VDDI hidden, 9 GNDB (power), 10 VOB (out), 11 VDDB (power), 12 NC (in) hidden, 13 NC (in) hidden, 14 GNDA (power), 15 VOA (out), 16 VDDA (power)

## Si8244CB
designator *  value Si8244CB
ki_keywords: class d gate driver; ki_description: Class D Audio Driver With Precision Dead-Time Generator, 10V UVLO, +/-750V, +4/-4A, SOIC-16; ki_fp_filters: SOIC*3.9x9.9*P1.27mm*; Footprint: Package_SO:SOIC-16_3.9x9.9mm_P1.27mm; Supplier: https://www.onsemi.com/pub/Collateral/NCD5702-D.PDF
footprint SOIC-16_3.9x9.9mm_P1.27mm
pins: 1 PWM (in), 2 NC (in) hidden, 3 VDDI (power), 4 GNDI (power), 5 DISABLE (in), 6 DT, 7 NC (in) hidden, 8 VDDI hidden, 9 GNDB (power), 10 VOB (out), 11 VDDB (power), 12 NC (in) hidden, 13 NC (in) hidden, 14 GNDA (power), 15 VOA (out), 16 VDDA (power)

## SSM2017P
designator *  value SSM2017P
ki_keywords: audio preamplifier; ki_description: Self-Contained Audio Preamplifier, DIP-8; ki_fp_filters: DIP*W7.62mm*; Footprint: Package_DIP:DIP-8_W7.62mm; Supplier: https://www.analog.com/media/en/technical-documentation/obsolete-data-sheets/139484016SSM2017.pdf
footprint DIP-8_W7.62mm
pins: 1 RG1 (in), 2 - (in), 3 + (in), 4 V- (power), 5 REF (in), 6 (out), 7 V+ (power), 8 RG2 (in)

## SSM2018
designator *  value SSM2018
ki_keywords: audio VCA; ki_description: Trimless Voltage Controlled Amplifier, DIP-16; ki_fp_filters: DIP*W7.62mm*; Footprint: Package_DIP:DIP-16_W7.62mm; Supplier: https://www.analog.com/media/en/technical-documentation/data-sheets/SSM2018.pdf
footprint DIP-16_W7.62mm
pins: 1 +I1-G (out), 2 V+ (power), 3 -IG (out), 4 -I1-G (out), 5 COMP1, 6 +IN (in), 7 -IN (in), 8 COMP2, 9 COMP3, 10 V- (power), 11 VC (in), 12 MODE (in), 13 GND (power), 14 VG (out), 15 BAL (in), 16 V1-G (out)
text: -; +; GAIN CORE

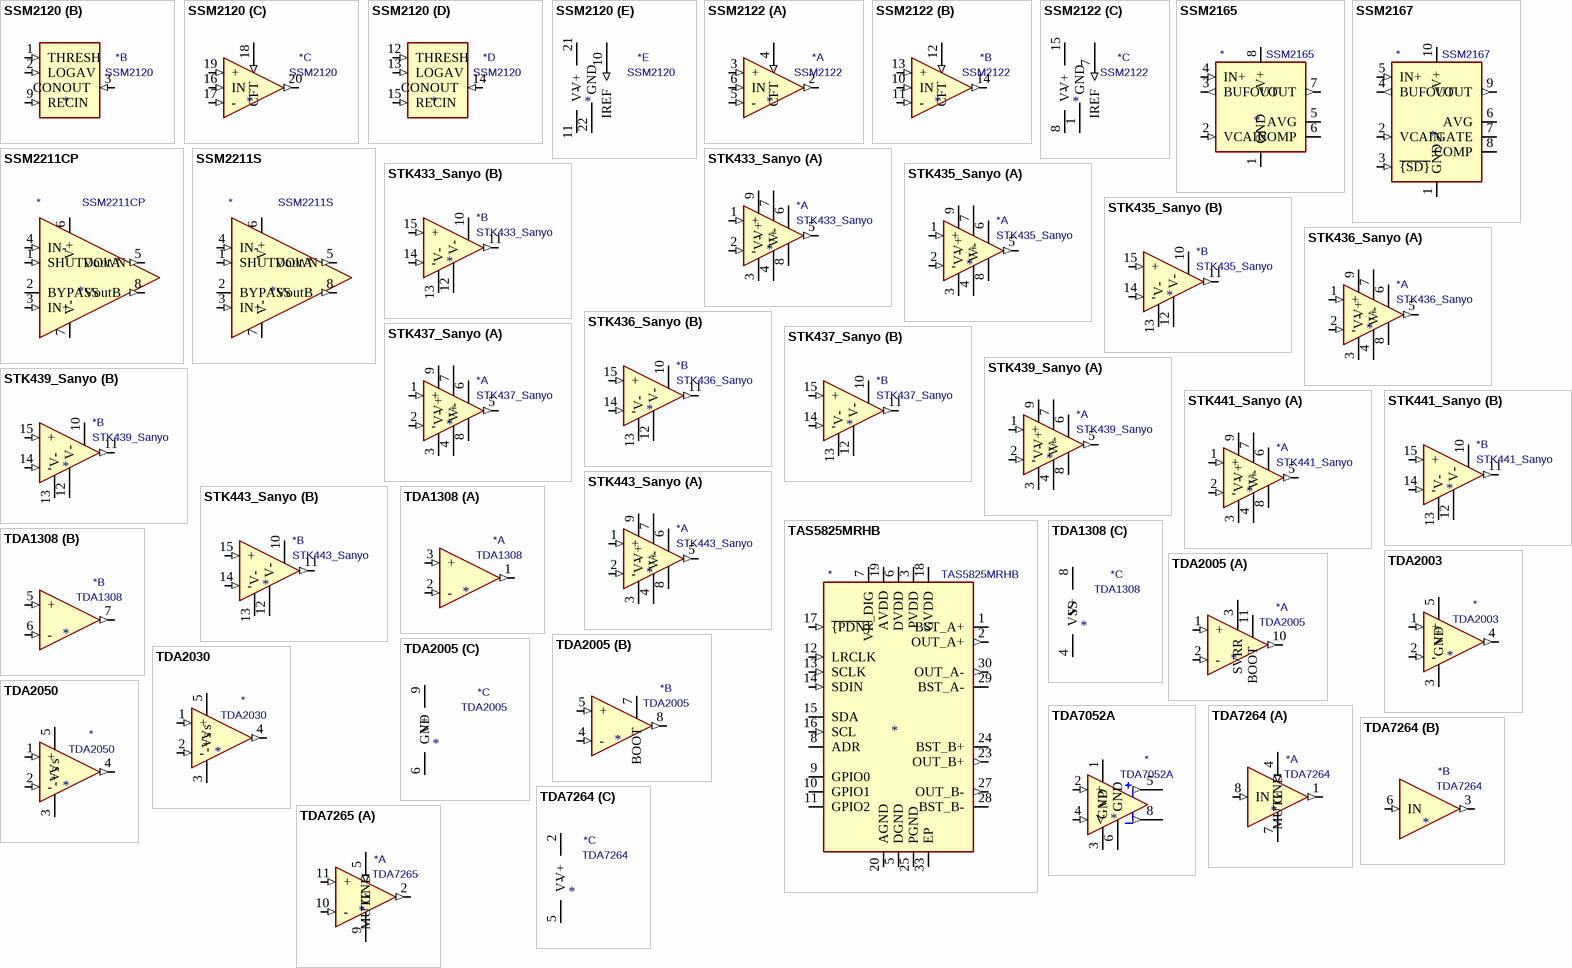
[diagram p2: symbols SSM2120 to TDA7265]

## SSM2120
designator *  value SSM2120
ki_keywords: audio VCA; ki_description: Dynamic Range Pprocessor/Dual VCA, DIP-22; ki_fp_filters: DIP*W7.62mm*; Footprint: Package_DIP:DIP-22_W7.62mm; Supplier: https://www.analog.com/media/en/technical-documentation/obsolete-data-sheets/105738070SSM2120.pdf
footprint DIP-22_W7.62mm
part A pins: 4 (out), 5 + (in), 6 CFT (in), 7 - (in), 8 IN (in)
part B pins: 1 THRESH (in), 2 LOGAV (in), 3 CONOUT (in), 9 RECIN (in)
part C pins: 16 IN (in), 17 - (in), 18 CFT (in), 19 + (in), 20 (out)
part D pins: 12 THRESH (in), 13 LOGAV (in), 14 CONOUT (in), 15 RECIN (in)
part E pins: 10 IREF (in), 11 V- (power), 21 V+ (power), 22 GND (power)

## SSM2122
designator *  value SSM2122
ki_keywords: audio VCA; ki_description: Dynamic Range Pprocessor/Dual VCA, DIP-16; ki_fp_filters: DIP*W7.62mm*; Footprint: Package_DIP:DIP-16_W7.62mm; Supplier: https://www.analog.com/media/en/technical-documentation/obsolete-data-sheets/105738070SSM2120.pdf
footprint DIP-16_W7.62mm
part A pins: 2 (out), 3 + (in), 4 CFT (in), 5 - (in), 6 IN (in)
part B pins: 10 IN (in), 11 - (in), 12 CFT (in), 13 + (in), 14 (out)
part C pins: 1 GND (power), 7 IREF (in), 8 V- (power), 9 GND hidden, 15 V+ (power), 16 GND hidden

## SSM2165
designator *  value SSM2165
ki_keywords: audio microphone preamplifier; ki_description: Microphone Preamplifier with Variable Compression and Noise Gating, DIP-8/SOIC-8; ki_fp_filters: SOIC*3.9x4.9mm*P1.27mm* DIP*W7.62mm*; Supplier: https://www.analog.com/media/en/technical-documentation/obsolete-data-sheets/SSM2165.PDF
pins: 1 GND (power), 2 VCAIN (in), 3 BUFOUT (out), 4 IN+ (in), 5 AVG, 6 COMP, 7 VOUT (out), 8 V+ (power)

## SSM2167
designator *  value SSM2167
ki_keywords: audio microphone amplifier; ki_description: Low Voltage Microphone Preamplifier with Variable Compression and Noise Gating, MSOP-10; ki_fp_filters: MSOP*3x3mm*P0.5mm*; Footprint: Package_SO:MSOP-10_3x3mm_P0.5mm; Supplier: https://www.analog.com/media/en/technical-documentation/data-sheets/SSM2167.pdf
footprint MSOP-10_3x3mm_P0.5mm
pins: 1 GND (power), 2 VCAIN (in), 3 ~{{SD}} (in), 4 BUFOUT (out), 5 IN+ (in), 6 AVG, 7 GATE, 8 COMP, 9 VOUT (out), 10 V+ (power)

## SSM2211CP
designator *  value SSM2211CP
ki_keywords: audio amplifier; ki_description: 1.5W BTL or 250mW SE 4MHz-bandwidth high performance amplifier, LFCSP-8; ki_fp_filters: LFCSP*1EP*3x3mm*P0.5mm*; Footprint: Package_CSP:LFCSP-8-1EP_3x3mm_P0.5mm_EP1.45x1.74mm; Supplier: https://www.analog.com/media/en/technical-documentation/data-sheets/SSM2211.pdf
footprint LFCSP-8-1EP_3x3mm_P0.5mm_EP1.45x1.74mm
pins: 1 SHUTDOWN (in), 2 BYPASS, 3 IN+ (in), 4 IN- (in), 5 VoutA (out), 6 V+ (power), 7 V- (power), 8 VoutB (out), 9 V- hidden

## SSM2211S
designator *  value SSM2211S
ki_keywords: audio amplifier; ki_description: 1.5W BTL or 250mW SE 4MHz-bandwidth high performance amplifier, SOIC-8; ki_fp_filters: SOIC*3.9x4.9mm*P1.27mm*; Footprint: Package_SO:SOIC-8_3.9x4.9mm_P1.27mm; Supplier: https://www.analog.com/media/en/technical-documentation/data-sheets/SSM2211.pdf
footprint SOIC-8_3.9x4.9mm_P1.27mm
pins: 1 SHUTDOWN (in), 2 BYPASS, 3 IN+ (in), 4 IN- (in), 5 VoutA (out), 6 V+ (power), 7 V- (power), 8 VoutB (out)

## STK433_Sanyo
designator *  value STK433_Sanyo
ki_keywords: audio amplifier 2ch; ki_description: 2-Channel 5 Wmin Audio Frequency Power Amplifier, 4010, SIP-15; ki_fp_filters: Sanyo*59.2x8.0mm*P2.54mm*; Footprint: Package_SIP:Sanyo_STK4xx-15_59.2x8.0mm_P2.54mm; Supplier: http://datasheet.octopart.com/STK430-Sanyo-datasheet-107060.pdf
footprint Sanyo_STK4xx-15_59.2x8.0mm_P2.54mm
part A pins: 1 + (in), 2 - (in), 3 V- (power), 4 V- (power), 5 (out), 6, 7 V+ (power), 8 (power), 9 V+ (power)
part B pins: 10, 11 (out), 12 V- (power), 13 V- (power), 14 - (in), 15 + (in)

## STK435_Sanyo
designator *  value STK435_Sanyo
ki_keywords: audio amplifier 2ch; ki_description: 2-Channel 7 Wmin Audio Frequency Power Amplifier, 4010, SIP-15; ki_fp_filters: Sanyo*59.2x8.0mm*P2.54mm*; Footprint: Package_SIP:Sanyo_STK4xx-15_59.2x8.0mm_P2.54mm; Supplier: http://datasheet.octopart.com/STK430-Sanyo-datasheet-107060.pdf
footprint Sanyo_STK4xx-15_59.2x8.0mm_P2.54mm
part A pins: 1 + (in), 2 - (in), 3 V- (power), 4 V- (power), 5 (out), 6, 7 V+ (power), 8 (power), 9 V+ (power)
part B pins: 10, 11 (out), 12 V- (power), 13 V- (power), 14 - (in), 15 + (in)

## STK436_Sanyo
designator *  value STK436_Sanyo
ki_keywords: audio amplifier 2ch; ki_description: 2-Channel 10 Wmin Audio Frequency Power Amplifier, 4010, SIP-15; ki_fp_filters: Sanyo*59.2x8.0mm*P2.54mm*; Footprint: Package_SIP:Sanyo_STK4xx-15_59.2x8.0mm_P2.54mm; Supplier: http://datasheet.octopart.com/STK430-Sanyo-datasheet-107060.pdf
footprint Sanyo_STK4xx-15_59.2x8.0mm_P2.54mm
part A pins: 1 + (in), 2 - (in), 3 V- (power), 4 V- (power), 5 (out), 6, 7 V+ (power), 8 (power), 9 V+ (power)
part B pins: 10, 11 (out), 12 V- (power), 13 V- (power), 14 - (in), 15 + (in)

## STK437_Sanyo
designator *  value STK437_Sanyo
ki_keywords: audio amplifier 2ch; ki_description: 2-Channel 12 Wmin Audio Frequency Power Amplifier, 4010, SIP-15; ki_fp_filters: Sanyo*78.0x8.0mm*P2.54mm*; Footprint: Package_SIP:Sanyo_STK4xx-15_78.0x8.0mm_P2.54mm; Supplier: http://datasheet.octopart.com/STK430-Sanyo-datasheet-107060.pdf
footprint Sanyo_STK4xx-15_78.0x8.0mm_P2.54mm
part A pins: 1 + (in), 2 - (in), 3 V- (power), 4 V- (power), 5 (out), 6, 7 V+ (power), 8 (power), 9 V+ (power)
part B pins: 10, 11 (out), 12 V- (power), 13 V- (power), 14 - (in), 15 + (in)

## STK439_Sanyo
designator *  value STK439_Sanyo
ki_keywords: audio amplifier 2ch; ki_description: 2-Channel 16 Wmin Audio Frequency Power Amplifier, 4010, SIP-15; ki_fp_filters: Sanyo*78.0x8.0mm*P2.54mm*; Footprint: Package_SIP:Sanyo_STK4xx-15_78.0x8.0mm_P2.54mm; Supplier: http://datasheet.octopart.com/STK430-Sanyo-datasheet-107060.pdf
footprint Sanyo_STK4xx-15_78.0x8.0mm_P2.54mm
part A pins: 1 + (in), 2 - (in), 3 V- (power), 4 V- (power), 5 (out), 6, 7 V+ (power), 8 (power), 9 V+ (power)
part B pins: 10, 11 (out), 12 V- (power), 13 V- (power), 14 - (in), 15 + (in)

## STK441_Sanyo
designator *  value STK441_Sanyo
ki_keywords: audio amplifier 2ch; ki_description: 2-Channel 24 Wmin Audio Frequency Power Amplifier, 4010, SIP-15; ki_fp_filters: Sanyo*78.0x8.0mm*P2.54mm*; Footprint: Package_SIP:Sanyo_STK4xx-15_78.0x8.0mm_P2.54mm; Supplier: http://datasheet.octopart.com/STK430-Sanyo-datasheet-107060.pdf
footprint Sanyo_STK4xx-15_78.0x8.0mm_P2.54mm
part A pins: 1 + (in), 2 - (in), 3 V- (power), 4 V- (power), 5 (out), 6, 7 V+ (power), 8 (power), 9 V+ (power)
part B pins: 10, 11 (out), 12 V- (power), 13 V- (power), 14 - (in), 15 + (in)

## STK443_Sanyo
designator *  value STK443_Sanyo
ki_keywords: audio amplifier 2ch; ki_description: 2-Channel 28 Wmin Audio Frequency Power Amplifier, 4010, SIP-15; ki_fp_filters: Sanyo*78.0x8.0mm*P2.54mm*; Footprint: Package_SIP:Sanyo_STK4xx-15_78.0x8.0mm_P2.54mm; Supplier: http://datasheet.octopart.com/STK430-Sanyo-datasheet-107060.pdf
footprint Sanyo_STK4xx-15_78.0x8.0mm_P2.54mm
part A pins: 1 + (in), 2 - (in), 3 V- (power), 4 V- (power), 5 (out), 6, 7 V+ (power), 8 (power), 9 V+ (power)
part B pins: 10, 11 (out), 12 V- (power), 13 V- (power), 14 - (in), 15 + (in)

## TAS5825MRHB
designator *  value TAS5825MRHB
ki_keywords: Class-D Stereo; ki_description: 38-W Stereo, Inductor-Less, Digital Input, Closed-Loop Class-D Audio Amplifier with 192-kHz Extended Audio Processing, VQFN-32; ki_fp_filters: VQFN*1EP*5x5mm*P0.5mm*; Footprint: Package_DFN_QFN:VQFN-32-1EP_5x5mm_P0.5mm_EP3.1x3.1mm; Supplier: www.ti.com/lit/ds/symlink/tas5825m.pdf
footprint VQFN-32-1EP_5x5mm_P0.5mm_EP3.1x3.1mm
pins: 1 BST_A+, 2 OUT_A+ (out), 3 PVDD (power), 4 PVDD hidden, 5 DGND (power), 6 DVDD (power), 7 VR_DIG, 8 ADR, 9 GPIO0 (io), 10 GPIO1 (io), 11 GPIO2 (io), 12 LRCLK (in), 13 SCLK (in), 14 SDIN (in), 15 SDA (io), 16 SCL (in), 17 ~{{PDN}} (in), 18 GVDD, 19 AVDD, 20 AGND (power), 21 PVDD hidden, 22 PVDD hidden, 23 OUT_B+ (out), 24 BST_B+, 25 PGND (power), 26 PGND hidden, 27 OUT_B- (out), 28 BST_B-, 29 BST_A-, 30 OUT_A- (out), 31 PGND hidden, 32 PGND hidden, 33 EP

## TDA1308
designator *  value TDA1308
ki_keywords: audio amplifier; ki_description: Class-AB Stereo Headphone Driver, SOIC-8/TSSOP-8; ki_fp_filters: SOIC*3.9x4.9mm*P1.27mm* TSSOP*3x3mm*P0.65mm*; Supplier: https://www.nxp.com/docs/en/data-sheet/TDA1308.pdf
part A pins: 1 (out), 2 - (in), 3 + (in)
part B pins: 5 + (in), 6 - (in), 7 (out)
part C pins: 4 VSS (power), 8 V+ (power)

## TDA2003
designator *  value TDA2003
ki_keywords: audio amplifier; ki_description: 10W Car Radio Audio Amplifier, TO-220-5; ki_fp_filters: TO*220*StaggerOdd*; Footprint: Package_TO_SOT_THT:TO-220-5_P3.4x3.7mm_StaggerOdd_Lead3.8mm_Vertical; Supplier: http://www.st.com/resource/en/datasheet/cd00000123.pdf
footprint TO-220-5_P3.4x3.7mm_StaggerOdd_Lead3.8mm_Vertical
pins: 1 + (in), 2 - (in), 3 GND (power), 4 (out), 5 V+ (power)

## TDA2005
designator *  value TDA2005
ki_keywords: audio amplifier; ki_description: 20W Bridge/Stereo Amplifier for Car Radio, TO-220-11; ki_fp_filters: TO?220*StaggerOdd*; Footprint: Package_TO_SOT_THT:TO-220-11_P3.4x5.08mm_StaggerOdd_Lead4.85mm_Vertical; Supplier: http://www.st.com/resource/en/datasheet/cd00000124.pdf
footprint TO-220-11_P3.4x5.08mm_StaggerOdd_Lead4.85mm_Vertical
part A pins: 1 + (in), 2 - (in), 3 SVRR, 10 (out), 11 BOOT
part B pins: 4 - (in), 5 + (in), 7 BOOT, 8 (out)
part C pins: 6 GND (power), 9 V+ (power)

## TDA2030
designator *  value TDA2030
ki_keywords: audio amplifier; ki_description: 14W Hi-Fi Audio Amplifier, TO-220-5; ki_fp_filters: TO*220*StaggerOdd*; Footprint: Package_TO_SOT_THT:TO-220-5_P3.4x3.7mm_StaggerOdd_Lead3.8mm_Vertical; Supplier: http://www.st.com/resource/en/datasheet/cd00000128.pdf
footprint TO-220-5_P3.4x3.7mm_StaggerOdd_Lead3.8mm_Vertical
pins: 1 + (in), 2 - (in), 3 -Vs (power), 4 (out), 5 +Vs (power)

## TDA2050
designator *  value TDA2050
ki_keywords: audio amplifier; ki_description: 32W Hi-Fi Audio Amplifier, TO-220-5; ki_fp_filters: TO*220*StaggerOdd*; Footprint: Package_TO_SOT_THT:TO-220-5_P3.4x3.7mm_StaggerOdd_Lead3.8mm_Vertical; Supplier: http://www.st.com/resource/en/datasheet/cd00000131.pdf
footprint TO-220-5_P3.4x3.7mm_StaggerOdd_Lead3.8mm_Vertical
pins: 1 + (in), 2 - (in), 3 -Vs (power), 4 (out), 5 +Vs (power)

## TDA7052A
designator *  value TDA7052A
ki_keywords: audio amplifier; ki_description: 1W BTL mono audio amplifier with DC volume control, DIP-8/SOIC-8; ki_fp_filters: SOIC*7.5x9mm*P1.27mm* DIP*W7.62mm*; Supplier: http://www.nxp.com/docs/en/data-sheet/TDA7052A_AT.pdf
pins: 1 VP (power), 2 + (in), 3 GND (power), 4 V (in), 5 (out), 6 GND (power), 7 NC (in) hidden, 8 (out)

## TDA7264
designator *  value TDA7264
ki_keywords: audio amplifier 2ch; ki_description: 25W + 25W stereo amplifier with mute and standby, TO-220-8; ki_fp_filters: TO?220*; Footprint: Package_TO_SOT_THT:TO-220-8_Vertical; Supplier: http://www.st.com/resource/en/datasheet/tda7264.pdf
footprint TO-220-8_Vertical
part A pins: 1 (out), 4 MUTE (in), 7 GND (power), 8 IN (in)
part B pins: 3 (out), 6 IN (in)
part C pins: 2 V+ (power), 5 V- (power)

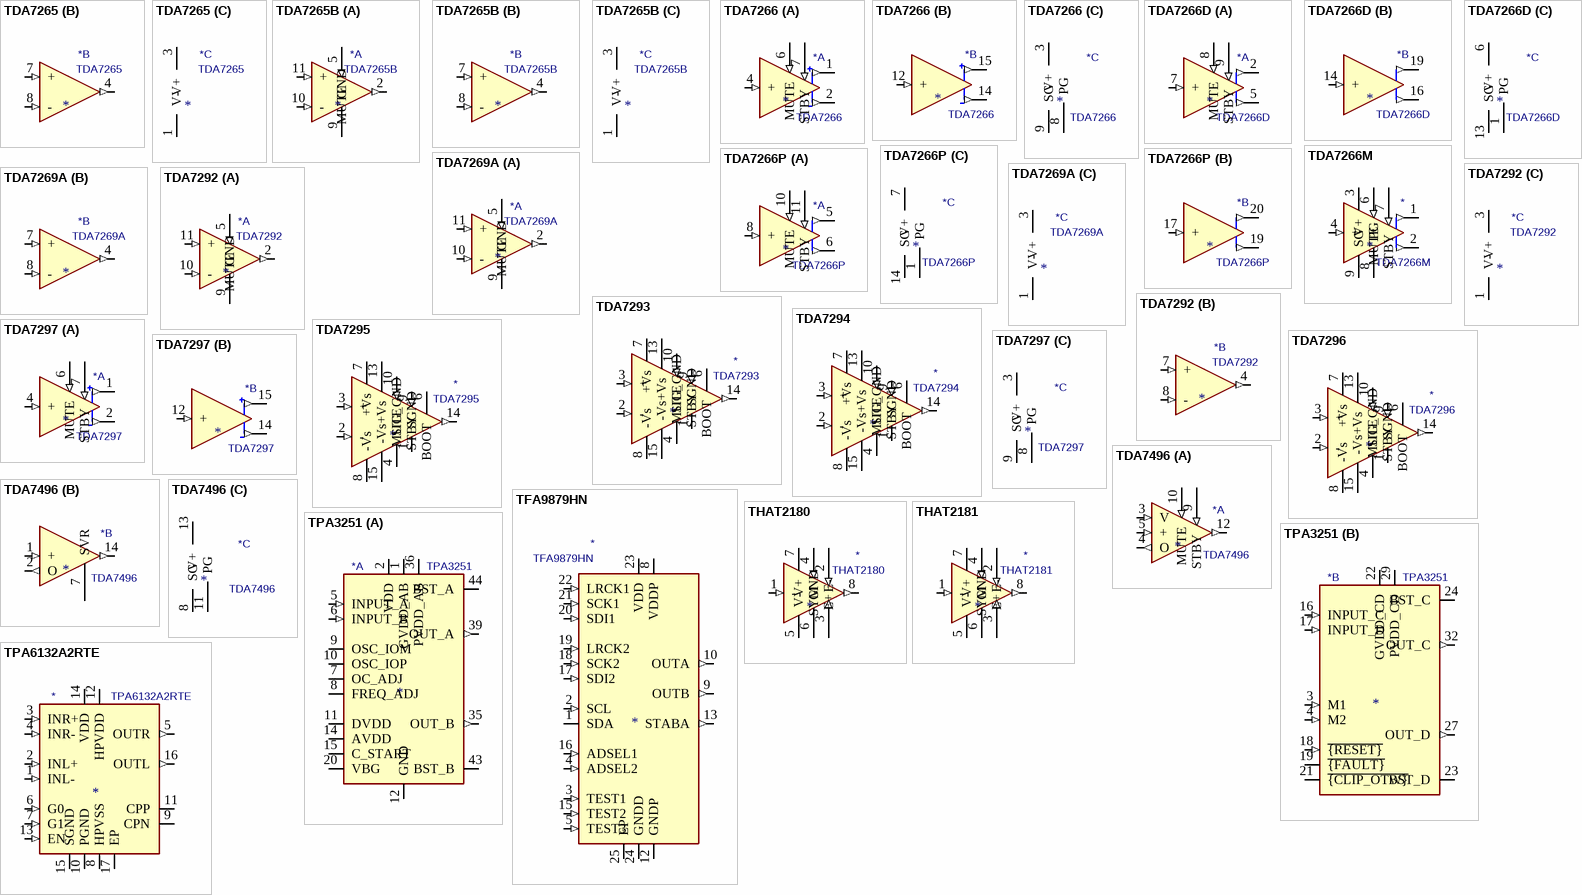
[diagram p3: symbols TDA7265 to TPA6132A2RTE]

## TDA7265
designator *  value TDA7265
ki_keywords: audio amplifier 2ch; ki_description: 25W +25W Stereo Amplifier with Mute & St-by, TO-220-11; ki_fp_filters: TO?220*StaggerOdd*; Footprint: Package_TO_SOT_THT:TO-220-11_P3.4x5.08mm_StaggerOdd_Lead4.85mm_Vertical; Supplier: http://www.st.com/resource/en/datasheet/tda7265.pdf
footprint TO-220-11_P3.4x5.08mm_StaggerOdd_Lead4.85mm_Vertical
part A pins: 2 (out), 5 MUTE (in), 9 GND (power), 10 - (in), 11 + (in)
part B pins: 4 (out), 7 + (in), 8 - (in)
part C pins: 1 V- (power), 3 V+ (power), 6 V- hidden

## TDA7265B
designator *  value TDA7265B
ki_keywords: audio amplifier 2ch; ki_description: 30W + 30W Stereo Amplifier with Mute and Standby, TO-220-11; ki_fp_filters: TO?220*StaggerOdd*; Footprint: Package_TO_SOT_THT:TO-220-11_P3.4x5.08mm_StaggerOdd_Lead4.85mm_Vertical; Supplier: http://www.st.com/resource/en/datasheet/tda7265b.pdf
footprint TO-220-11_P3.4x5.08mm_StaggerOdd_Lead4.85mm_Vertical
part A pins: 2 (out), 5 MUTE (in), 9 GND (power), 10 - (in), 11 + (in)
part B pins: 4 (out), 7 + (in), 8 - (in)
part C pins: 1 V- (power), 3 V+ (power), 6 V- hidden

## TDA7266
designator *  value TDA7266
ki_keywords: audio amplifier 2ch; ki_description: 7+7W Dual Bridge Amplifier, TO-220-15; ki_fp_filters: TO?220*StaggerOdd*; Footprint: Package_TO_SOT_THT:TO-220-15_P2.54x2.54mm_StaggerOdd_Lead4.58mm_Vertical; Supplier: http://www.st.com/resource/en/datasheet/tda7266.pdf
footprint TO-220-15_P2.54x2.54mm_StaggerOdd_Lead4.58mm_Vertical
part A pins: 1 (out), 2 (out), 4 + (in), 5 NC (in) hidden, 6 MUTE (in), 7 STBY (in), 10 NC (in) hidden, 11 NC (in) hidden
part B pins: 12 + (in), 14 (out), 15 (out)
part C pins: 3 V+ (power), 8 PG (power), 9 SG (power), 13 V+ hidden

## TDA7266D
designator *  value TDA7266D
ki_keywords: audio amplifier 2ch; ki_description: 5W+5W Dual Bridge Amplifier, PowerSO-20; ki_fp_filters: HSOP*EP*11.0x15.9mm*P1.27mm*SlugDown*; Footprint: Package_SO:HSOP-20-1EP_11.0x15.9mm_P1.27mm_SlugDown; Supplier: http://www.st.com/resource/en/datasheet/tda7266d.pdf
footprint HSOP-20-1EP_11.0x15.9mm_P1.27mm_SlugDown
part A pins: 2 (out), 3 NC (in) hidden, 4 NC (in) hidden, 5 (out), 7 + (in), 8 MUTE (in), 9 STBY (in), 12 NC (in) hidden, 17 NC (in) hidden, 18 NC (in) hidden
part B pins: 14 + (in), 16 (out), 19 (out)
part C pins: 1 PG (power), 6 V+ (power), 10 PG hidden, 11 PG hidden, 13 SG (power), 15 V+ hidden, 20 PG hidden